# Altium schematic symbol library LC-SchLib.SchLib: 35 symbols
Pins are listed as number, name and electrical type; pins without a type are passive.

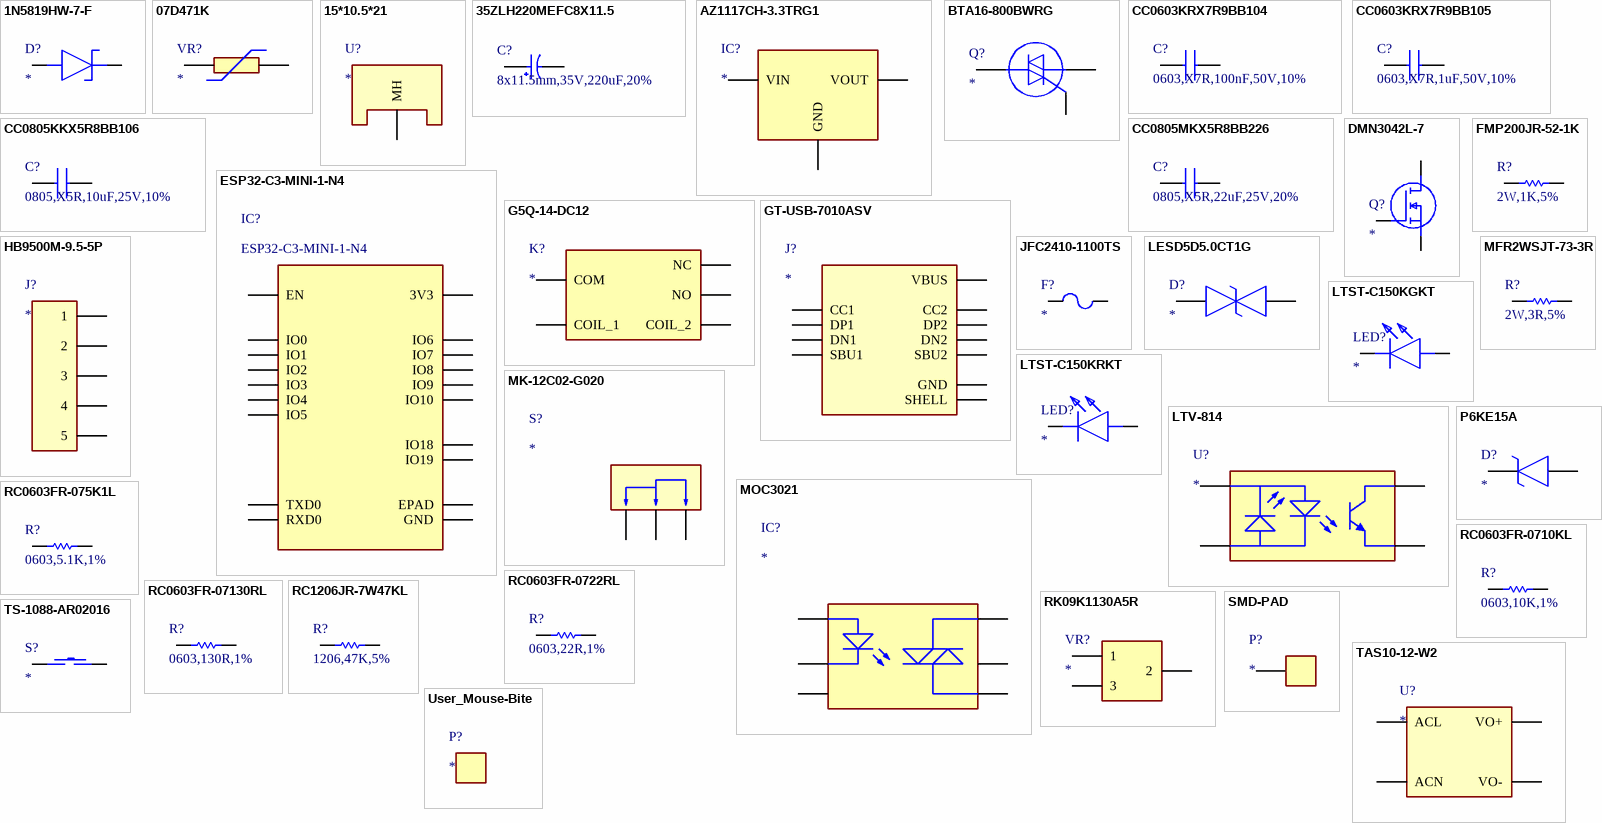
[diagram p0: symbols 1N5819HW-7-F to User_Mouse-Bite]

## 1N5819HW-7-F
designator D?
40V 450mV@1A 1A SOD-123 Schottky Diodes ROHS; Manufacturer_Name: Diodes Incorporated; Manufacturer_Part_Number: 1N5819HW-7-F; Datasheet Link: https://www.diodes.com//assets/Datasheets/1N5819HW.pdf; Height: 1.45mm; Mouser Part Number: 621-1N5819HW-F; Mouser Price/Stock: https://www.mouser.co.uk/ProductDetail/Diodes-Incorporated/1N5819HW-7-F?qs=NQ47qNm99eDyWTEd07miYA%3D%3D; Arrow Part Number: 1N5819HW-7-F; Arrow Price/Stock: https://www.arrow.com/en/products/1n5819hw-7-f/diodes-incorporated?utm_currency=USD&region=nac; LCSC Part Number: C82544
footprint SOD3716X145N
pins: 1 K, 2 A

## 07D471K
designator VR?
775V 385V 300V 423V~517V Through Hole,P=5mm Varistors ROHS; LCSC Part Number: C28756
footprint RES-TH_L9.0-W6.2-P5.00-D0.7-S6.20
pins: 1, 2

## 15*10.5*21
designator U?
15.5*10.5*21MM 6063-T5 Heat sink / cooling fin ROHS; LCSC Part Number: C7421513
footprint SINK-TH_L15.0-W10.5-H21.0
pins: 1 MH

## 35ZLH220MEFC8X11.5
designator C?, comment 8x11.5mm,35V,220uF,20%
220uF 35V 472.5mA@120Hz ±20% Through Hole,D8xL11.5mm Aluminum Electrolytic Capacitors - Leaded ROHS; Manufacturer_Name: Rubycon; Manufacturer_Part_Number: 35ZLH220MEFC8X11.5; Datasheet Link: http://www.rubycon.co.jp/EN/CATALOG/E_PDFS/ALUMINUM/E_ZLH.PDF; Height: 13.5mm; Mouser Part Number: 232-35ZLH220MEFC8X15; Mouser Price/Stock: https://www.mouser.co.uk/ProductDetail/Rubycon/35ZLH220MEFC8X11.5?qs=T3oQrply3y%252BhdplO5%252Bmtcg%3D%3D; Arrow Part Number: 35ZLH220MEFC8X11.5; Arrow Price/Stock: https://www.arrow.com/en/products/35zlh220mefc8x11.5/rubycon?utm_currency=USD&region=nac; LCSC Part Number: C107639
footprint CAPPRD350W60D825H1350
pins: 1 +, 2 -

## AZ1117CH-3.3TRG1
designator IC?
70dB@(120Hz) 1.35A Fixed 3.3V Positive 10V SOT-223 Voltage Regulators - Linear, Low Drop Out (LDO) Regulators ROHS; Manufacturer_Name: Diodes Incorporated; Manufacturer_Part_Number: AZ1117CH-3.3TRG1; Datasheet Link: https://www.diodes.com//assets/Datasheets/AZ1117C.pdf; Height: 1.8mm; Mouser Part Number: 621-AZ1117CH-3.3TRG1; Mouser Price/Stock: https://www.mouser.co.uk/ProductDetail/Diodes-Incorporated/AZ1117CH-3.3TRG1?qs=FKu9oBikfSm7ntaG6olPSQ%3D%3D; Arrow Part Number: AZ1117CH-3.3TRG1; Arrow Price/Stock: https://www.arrow.com/en/products/az1117ch-3.3trg1/diodes-incorporated?utm_currency=USD&region=nac; LCSC Part Number: C92102
footprint SOT230P700X180-4N
pins: 1 GND, 2 OUTPUT, 3 VIN, 4 VOUT

## BTA16-800BWRG
designator Q?
35mA 50mA 800V 1 TRIAC TO-220AB Thyristors (SCR)/Modules ROHS; Manufacturer_Name: STMicroelectronics; Manufacturer_Part_Number: BTA16-800BWRG; Datasheet Link: http://www.st.com/web/en/resource/technical/document/datasheet/CD00002265.pdf; Height: 4.6mm; Mouser Part Number: 511-BTA16-800BW; Mouser Price/Stock: https://www.mouser.co.uk/ProductDetail/STMicroelectronics/BTA16-800BWRG?qs=pt%2FMICWRfHvPicwiGmWB%252BA%3D%3D; Arrow Part Number: BTA16-800BWRG; Arrow Price/Stock: https://www.arrow.com/en/products/bta16-800bwrg/stmicroelectronics?utm_currency=USD&region=europe; LCSC Part Number: C10065
footprint TO255P1020X450X1965-3
pins: 1 A1, 2 A2, 3 G

## CC0603KRX7R9BB104
designator C?, comment 0603,X7R,100nF,50V,10%
50V 100nF X7R ±10% 0603 Multilayer Ceramic Capacitors MLCC - SMD/SMT ROHS; Manufacturer_Name: YAGEO; Manufacturer_Part_Number: CC0603KRX7R9BB104; Datasheet Link: https://componentsearchengine.com/Datasheets/2/CC0603KRX7R9BB104.pdf; Height: 0.9mm; Mouser Part Number: 603-CC603KRX7R9BB104; Mouser Price/Stock: https://www.mouser.co.uk/ProductDetail/YAGEO/CC0603KRX7R9BB104?qs=vTakOoo5QyLvVCYM2ge8LQ%3D%3D; Arrow Part Number: CC0603KRX7R9BB104; Arrow Price/Stock: https://www.arrow.com/en/products/cc0603krx7r9bb104/yageo?utm_currency=USD&region=europe; JLCPCB Part #: C14663; LCSC Part Number: C14663
footprint CAPC1608X90N
pins: 1, 2

## CC0603KRX7R9BB105
designator C?, comment 0603,X7R,1uF,50V,10%
50V 1uF X7R ±10% 0603 Multilayer Ceramic Capacitors MLCC - SMD/SMT ROHS; Manufacturer_Name: YAGEO; Manufacturer_Part_Number: CC0603KRX7R9BB105; Datasheet Link: https://www.yageo.com/upload/media/product/app/datasheet/mlcc/upy-gphc_x7r_6_3v-to-250v.pdf; Height: 0.95mm; Mouser Part Number: 603-CC603KRX7R9BB105; Mouser Price/Stock: https://www.mouser.co.uk/ProductDetail/YAGEO/CC0603KRX7R9BB105?qs=6wERJjOp3mmF17%252BYi8cgJQ%3D%3D; Arrow Part Number: CC0603KRX7R9BB105; Arrow Price/Stock: https://www.arrow.com/en/products/cc0603krx7r9bb105/yageo?utm_currency=USD&region=nac; LCSC Part Number: C559769
footprint CAPC1608X90N
pins: 1, 2

## CC0805KKX5R8BB106
designator C?, comment 0805,X5R,10uF,25V,10%
10 µF ±10% 25V Ceramic Capacitor X5R 0805 (2012 Metric); Manufacturer_Name: YAGEO; Manufacturer_Part_Number: CC0805KKX5R8BB106; Datasheet Link: https://www.yageo.com/upload/media/product/productsearch/datasheet/mlcc/UPY-GPHC_X5R_4V-to-50V_27.pdf; Height: 1.45mm; Mouser Part Number: 603-CC805KKX5R8BB106; Mouser Price/Stock: https://www.mouser.co.uk/ProductDetail/YAGEO/CC0805KKX5R8BB106?qs=57cj7OiSijm89pM64t1AGQ%3D%3D; Arrow Part Number: CC0805KKX5R8BB106; Arrow Price/Stock: https://www.arrow.com/en/products/cc0805kkx5r8bb106/yageo?utm_currency=USD&region=nac; LCSC Part Number: C89831
footprint CAPC2012X145N
pins: 1, 2

## CC0805MKX5R8BB226
designator C?, comment 0805,X5R,22uF,25V,20%
22 µF ±20% 25V Ceramic Capacitor X5R 0805 (2012 Metric); Manufacturer_Name: YAGEO; Manufacturer_Part_Number: CC0805MKX5R8BB226; Datasheet Link: https://www.yageo.com/upload/media/product/productsearch/datasheet/mlcc/UPY-GPHC_X5R_4V-to-50V_26.pdf; Height: 1.45mm; Mouser Part Number: 603-CC805MKX5R8BB226; Mouser Price/Stock: https://www.mouser.co.uk/ProductDetail/YAGEO/CC0805MKX5R8BB226?qs=WS5Jv%252B%252Bx1qULWDK6O%2FQuig%3D%3D; LCSC Part Number: C784585
footprint CAPC2012X145N
pins: 1, 2

## DMN3042L-7
designator Q?
N-Channel 30 V 5.8A (Ta) 720mW (Ta) Surface Mount SOT-23-3; Manufacturer_Name: Diodes Incorporated; Manufacturer_Part_Number: DMN3042L-7; Datasheet Link: https://www.diodes.com//assets/Datasheets/DMN3042L.pdf; Height: 1.15mm; Mouser Part Number: 621-DMN3042L-7; Mouser Price/Stock: https://www.mouser.co.uk/ProductDetail/Diodes-Incorporated/DMN3042L-7?qs=BvpHGKeVh3rQK2Uscu7jEw%3D%3D; Arrow Part Number: DMN3042L-7; Arrow Price/Stock: https://www.arrow.com/en/products/dmn3042l-7/diodes-incorporated?utm_currency=USD&region=nac; LCSC Part Number: C2838502
footprint SOT96P240X115-3N
pins: 1 G, 2 S, 3 D

## ESP32-C3-MINI-1-N4
designator IC?
Small-sized 2.4 GHz Wi-Fi (802.11b/g/n) and Bluetooth® 5 module / Built around ESP32-C3 series of SoCs, RISC-V single-core microprocessor / 4 MB flash in chip package / 15 GPIOs / On-board PCB antenna or external antenna connector; Manufacturer_Name: Espressif Systems; Datasheet Link: https://www.mouser.com/datasheet/2/891/Espressif_ESP32_C3_MINI_1_Datasheet-2006822.pdf; Height: 2.55mm; Manufacturer_Part_Number: ESP32-C3-MINI-1-N4; Mouser Part Number: 356-ESP32-C3-MINI1N4; Mouser Price/Stock: https://www.mouser.co.uk/ProductDetail/Espressif-Systems/ESP32-C3-MINI-1-N4?qs=stqOd1AaK7%252B%2FpH3qqyGehA%3D%3D; LCSC Part Number: C2838502
footprint ESP32C3MINI1N4
pins: 1 GND, 2 GND, 3 3V3, 5 IO2, 6 IO3, 8 EN, 11 GND, 12 IO0, 13 IO1, 14 GND, 16 IO10, 18 IO4, 19 IO5, 20 IO6, 21 IO7, 22 IO8, 23 IO9, 26 IO18, 27 IO19, 30 RXD0, 31 TXD0, 36 GND, 37 GND, 38 GND, 39 GND, 40 GND, 41 GND, 42 GND, 43 GND, 44 GND, 45 GND, 46 GND, 47 GND, 48 GND, 49 EPAD, 50 EPAD, 51 EPAD, 52 EPAD, 53 EPAD, 54 EPAD, 55 EPAD, 56 EPAD, 57 EPAD, 58 GND, 59 GND, 60 GND, 61 GND

## FMP200JR-52-1K
designator R?, comment 2W,1K,5%
Metal Film Resistor 1kΩ 2W ±5% Through Hole,D3.9xL9mm Through Hole Resistors ROHS; LCSC Part Number: C1740167
footprint RES-TH_BD4.0-L11.5-P15.50-D0.7
pins: 1, 2

## G5Q-14-DC12
designator K?
12V 10A 1 Form C: 1C (SPDT-CO) Through Hole,10x20mm Power Relays ROHS; Manufacturer_Name: Omron Electronics; Manufacturer_Part_Number: G5Q-14-DC12; Datasheet Link: https://datasheet.lcsc.com/szlcsc/Omron-Electronics-G5Q-14-DC12_C225715.pdf; Height: 16.2mm; Mouser Part Number: 653-G5Q-14-DC12; Mouser Price/Stock: https://www.mouser.co.uk/ProductDetail/Omron-Electronics/G5Q-14-DC12?qs=lK7M36XCk6KX8SEFaHI6UQ%3D%3D; Arrow Part Number: G5Q-14-DC12; Arrow Price/Stock: https://www.arrow.com/en/products/g5q-14-dc12/omron?utm_currency=USD&region=nac; LCSC Part Number: C225715
footprint G5Q14DC12
pins: 1 COIL_1, 2 COM, 3 NO, 4 NC, 5 COIL_2

## GT-USB-7010ASV
designator J?
USB 2.0 3A 1 Surface Mount, Right Angle 16P Female -40℃~+85℃ Type-C SMD USB Connectors ROHS; LCSC Part Number: C2988369
footprint USB-C-SMD_G-SWITCH_GT-USB-7010ASV
pins: 1 SHELL, 2 SHELL, 3 SHELL, 4 SHELL, A1B12 GND, A4B9 VBUS, A5 CC1, A6 DP1, A7 DN1, A8 SBU1, B1A12 GND, B4A9 VBUS, B5 CC2, B6 DP2, B7 DN2, B8 SBU2

## HB9500M-9.5-5P
designator J?
1x5P Side Mount With Cover Plate 5 1 9.5mm -40℃~+105℃ 32A 750V Black 12~22 Straight Pin 4 Through Hole,P=9.5mm Barrier Terminal Blocks ROHS; LCSC Part Number: C601240
footprint CONN-TH_HB9500M-9.5-5P
pins: 1, 2, 3, 4, 5

## JFC2410-1100TS
designator F?
50A Surface Mount Fuse 1A 250V 250V 2410 Disposable fuses ROHS; LCSC Part Number: C136380
footprint F2410
pins: 1, 2

## LESD5D5.0CT1G
designator D?
9.4A 18.6V 5.6V Bidirectional 5V SOD-523 ESD and Surge Protection (TVS/ESD) ROHS; Manufacturer_Name: LRC; Manufacturer_Part_Number: LESD5D5.0CT1G; Height: 0.7mm; LCSC Part Number: C383211
footprint LESD5D50CT1G
pins: 1, 2

## LTST-C150KGKT
designator LED?
20mA 44.5mcd Water Clear -55℃~+85℃ 571nm Yellow Green 130° 75mW 2V 1206 LED Indication - Discrete ROHS; Manufacturer_Name: Lite-On; Manufacturer_Part_Number: LTST-C150KGKT; Datasheet Link: http://optoelectronics.liteon.com/upload/download/ds22-2000-072/ltst-c150kgkt.pdf; Height: 1.2mm; Mouser Part Number: 859-LTST-C150KGKT; Mouser Price/Stock: https://www.mouser.co.uk/ProductDetail/Lite-On/LTST-C150KGKT?qs=G7lFeYdtIHB%2FzaFKBwEyXw%3D%3D; Arrow Part Number: LTST-C150KGKT; Arrow Price/Stock: https://www.arrow.com/en/products/ltst-c150kgkt/lite-on-technology?utm_currency=USD&region=nac; LCSC Part Number: C125085
footprint LEDC3216X120N
pins: 1 K, 2 A

## LTST-C150KRKT
designator LED?
20mA 54mcd Water Clear -30℃~+85℃ 624nm Red 130° 62.5mW 2V 1206 LED Indication - Discrete ROHS; Manufacturer_Name: Lite-On; Manufacturer_Part_Number: LTST-C150KRKT; Datasheet Link: https://optoelectronics.liteon.com/upload/download/DS-22-99-0149/LTST-C150KRKT.pdf; Height: 1.2mm; Mouser Part Number: 859-LTST-C150KRKT; Mouser Price/Stock: https://www.mouser.co.uk/ProductDetail/Lite-On/LTST-C150KRKT?qs=EfspBadgGjC5L5YGrXjS9g%3D%3D; Arrow Part Number: LTST-C150KRKT; Arrow Price/Stock: https://www.arrow.com/en/products/ltst-c150krkt/lite-on-technology?utm_currency=USD&region=nac; LCSC Part Number: C125086
footprint LEDC3216X120N
pins: 1 K, 2 A

## LTV-814
designator U?
35V 5kV 50mA 100mV@20mA,1mA 1 1.2V DC SMD-4P Transistor, Photovoltaic Output Optoisolators ROHS; LCSC Part Number: C10790
footprint DIP-4_L6.5-W4.6-P2.54-LS7.6-BL
pins: 1 Anode/Cathode, 2 Anode/Cathode, 3 Emitter, 4 Collector

## MFR2WSJT-73-3R
designator R?, comment 2W,3R,5%
Metal Film Resistor 3Ω 2W ±5% Through Hole,D4.5xL11.5mm Through Hole Resistors ROHS; LCSC Part Number: C176580
footprint RES-TH_BD4.0-L11.5-P15.50-D0.7
pins: 1, 2

## MK-12C02-G020
designator S?
Surface Mount, Right Angle 1A SPDT 6V Black 10,000 Cycles SMD Slide Switches ROHS; LCSC Part Number: C963206
footprint SW-SMD_MK-12C02-G020
pins: 1, 2, 3

## MOC3021
designator IC?
1000V/us 50mA 400V 1.15V TRIAC DIP-6 Triac, SCR Output Optoisolators ROHS; Manufacturer_Name: Lite-On; Manufacturer_Part_Number: MOC3020; Datasheet Link: https://www.arrow.com/en/products/moc3020/lite-on-technology?region=nac; Height: 4.5mm; Mouser Part Number: 859-MOC3020; Mouser Price/Stock: https://www.mouser.co.uk/ProductDetail/Lite-On/MOC3020?qs=kgKJAWzqwChc9Zw3a0r80A%3D%3D; Arrow Part Number: MOC3020; Arrow Price/Stock: null?region=nac; LCSC Part Number: C123202
footprint DIP-6_L8.5-W6.4-P2.54-LS7.6-BL
pins: 1 ANODE, 2 CATHODE, 3 NC, 4 MAIN_TERMINAL_1, 5 SUBSTRATE, 6 MAIN_TERMINAL_2

## P6KE15A
designator D?
147A@8/20us 600W@10/1000us 27.2V 15.8V Unidirectional 13V DO-15 ESD and Surge Protection (TVS/ESD) ROHS; Manufacturer_Name: STMicroelectronics; Manufacturer_Part_Number: P6KE15A; Datasheet Link: http://www.st.com/web/en/resource/technical/document/datasheet/CD00000720.pdf; Mouser Part Number: 511-P6KE15A; Mouser Price/Stock: https://www.mouser.co.uk/ProductDetail/STMicroelectronics/P6KE15A?qs=TGPpmpbSrT5hhHGF%252BJ4hqw%3D%3D; Arrow Part Number: P6KE15A; Arrow Price/Stock: https://www.arrow.com/en/products/p6ke15a/stmicroelectronics?region=nac; LCSC Part Number: C1974865
footprint DIOAD1936W88L640D324
pins: 1 K, 2 A

## RC0603FR-075K1L
designator R?, comment 0603,5.1K,1%
100mW Thick Film Resistor 75V ±100ppm/℃ ±1% 5.1kΩ 0603 Chip Resistor - Surface Mount ROHS; Manufacturer_Name: YAGEO; Manufacturer_Part_Number: RC0603FR-0710KL; Datasheet Link: https://www.mouser.in/datasheet/2/447/PYu_RC_Group_51_RoHS_L_11-1984063.pdf; Height: 0.55mm; Mouser Part Number: 603-RC0603FR-0710KL; Mouser Price/Stock: https://www.mouser.co.uk/ProductDetail/YAGEO/RC0603FR-0710KL?qs=grNVn54RoB%252B3GtjbJj3wJQ%3D%3D; Arrow Part Number: RC0603FR-0710KL; Arrow Price/Stock: https://www.arrow.com/en/products/rc0603fr-0710kl/yageo?utm_currency=USD&region=nac; LCSC Part Number: C105580
footprint RESC1608X55N
pins: 1, 2

## RC0603FR-0710KL
designator R?, comment 0603,10K,1%
100mW Thick Film Resistor 75V ±100ppm/℃ ±1% 10kΩ 0603 Chip Resistor - Surface Mount ROHS; Manufacturer_Name: YAGEO; Manufacturer_Part_Number: RC0603FR-0710KL; Datasheet Link: https://www.mouser.in/datasheet/2/447/PYu_RC_Group_51_RoHS_L_11-1984063.pdf; Height: 0.55mm; Mouser Part Number: 603-RC0603FR-0710KL; Mouser Price/Stock: https://www.mouser.co.uk/ProductDetail/YAGEO/RC0603FR-0710KL?qs=grNVn54RoB%252B3GtjbJj3wJQ%3D%3D; Arrow Part Number: RC0603FR-0710KL; Arrow Price/Stock: https://www.arrow.com/en/products/rc0603fr-0710kl/yageo?utm_currency=USD&region=nac; LCSC Part Number: C98220
footprint RESC1608X55N
pins: 1, 2

## RC0603FR-0722RL
designator R?, comment 0603,22R,1%
100mW Thick Film Resistor 75V ±100ppm/℃ ±1% 22Ω 0603 Chip Resistor - Surface Mount ROHS; Manufacturer_Name: YAGEO; Manufacturer_Part_Number: RC0603FR-0722RL; Datasheet Link: http://www.farnell.com/datasheets/1868787.pdf; Height: 0.55mm; Mouser Part Number: 603-RC0603FR-0722RL; Mouser Price/Stock: https://www.mouser.co.uk/ProductDetail/YAGEO/RC0603FR-0722RL?qs=diQw95jMAeMOsxb8bne7fg%3D%3D; Arrow Part Number: RC0603FR-0722RL; Arrow Price/Stock: https://www.arrow.com/en/products/rc0603fr-0722rl/yageo?region=nac; LCSC Part Number: C107701
footprint RESC1608X55N
pins: 1, 2

## RC0603FR-07130RL
designator R?, comment 0603,130R,1%
130 Ohms ±1% 0.1W, 1/10W Chip Resistor 0603 (1608 Metric) Moisture Resistant Thick Film; Manufacturer_Name: YAGEO; Manufacturer_Part_Number: RC0603FR-07130RL; Datasheet Link: https://www.mouser.com/catalog/specsheets/YAGEO_PYu_RC_Group_51_RoHS_L_12.pdf; Height: 0.55mm; LCSC Part Number: C141677
footprint RESC1608X55N
pins: 1, 2

## RC1206JR-7W47KL
designator R?, comment 1206,47K,5%
500mW Thick Film Resistor ±5% ±200ppm/℃ 47kΩ 1206 Chip Resistor - Surface Mount ROHS; MP: RC1206JR-070RL; MF: Yageo; Purchase-URL: https://pricing.snapeda.com/search/part/RC1206JR-070RL/?ref=eda; Package: 1206 Yageo; Availability: In Stock; Check_prices: https://www.snapeda.com/parts/RC1206JR-070RL/Yageo/view-part/?ref=eda; Value: *; SnapEDA_Link: https://www.snapeda.com/parts/RC1206JR-070RL/Yageo/view-part/?ref=snap; Price: None; LCSC Part Number: C20164413
footprint RESC3116X65N
pins: 1, 2

## RK09K1130A5R
designator VR?
±20% 50mW 5kΩ Through Hole Potentiometers, Variable Resistors ROHS; Manufacturer_Name: ALPS Electric; Manufacturer_Part_Number: RK09K1130AV7; Mouser Part Number: 688-RK09K1130AV7; Mouser Price/Stock: https://www.mouser.co.uk/ProductDetail/Alps-Alpine/RK09K1130AV7?qs=6EGMNY9ZYDTktmKuM5MDvw%3D%3D; LCSC Part Number: C209779
footprint RES-ADJ-TH_RK09D1130C4G
pins: 1, 2, 3

## SMD-PAD
designator P?  (no BOM)
SMD Pad for 18-22 AWG wire
footprint USER_SMD-PAD
pins: 1

## TAS10-12-W2
designator U?
12V 830mA 85VAC~265VAC 100V~370V 10W AC/DC-DC 85% Through Hole,25x39mm AC-DC Power Modules ROHS; LCSC Part Number: C2687656
footprint PWRM-TH_TAS10-XX-W2
pins: 1 ACN, 2 ACL, 4 VO-, 6 VO+

## TS-1088-AR02016
designator S?
Without Bracket 50mA 4mm 100,000 Cycles 12V 1.6N 3mm 2mm Round Button Surface Mount,Vertical SPST SMD Tactile Switches ROHS; LCSC Part Number: C720477
footprint SW-SMD_L3.9-W3.0-P4.45
pins: 1, 2

## User_Mouse-Bite
designator P?  (no BOM)
3mm Mouse Bites
footprint mouse-bite-3mm-slot